# EAGLE library part TLC5941_RHB_32 (library Components)
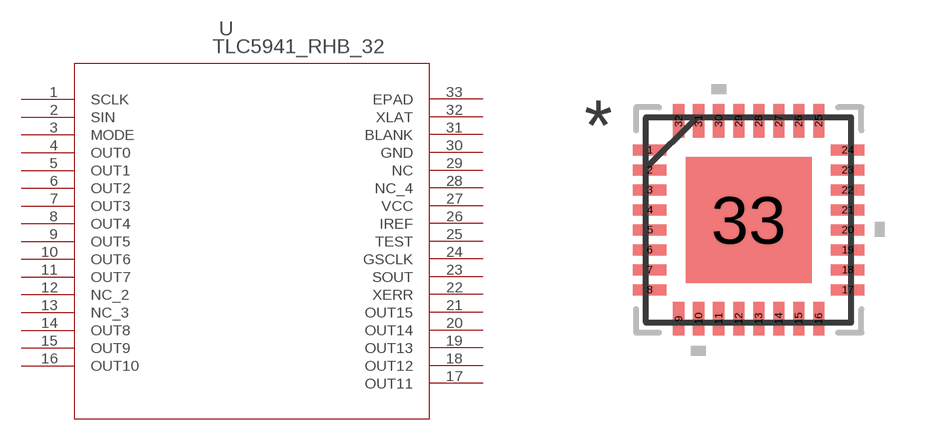
[diagram p6: symbol with the pads of RHB32_3P15X3P15; footprint RHB32_3P15X3P15]

Designator prefix U

## TLC5941_RHB_32 (DATASHEETURL: http://www.ti.com/lit/gpn/TLC5941; DESCRIPTION: 16 Channel LED Driver with Dot Correction and Grayscale PWM Control; FAMILY_NAME: LED DRIVER; GENERIC_PART_NUMBER: TLC5941; INDUSTRY_STD_PKG_TYPE: QFN; MANUFACTURER: Texas Instruments; MANUFACTURER_PART_NUMBER: tlc5941_rhb_32; PACKAGE_DESIGNATOR: RHB; PIN_COUNT: 32; VENDOR: Texas Instruments)  [RHB32_3P15X3P15]
1  SCLK  in
2  SIN  in
3  MODE  in
4  OUT0  out
5  OUT1  out
6  OUT2  out
7  OUT3  out
8  OUT4  out
9  OUT5  out
10  OUT6  out
11  OUT7  out
12  NC_2  pas
13  NC_3  pas
14  OUT8  out
15  OUT9  out
16  OUT10  out
17  OUT11  out
18  OUT12  out
19  OUT13  out
20  OUT14  out
21  OUT15  out
22  XERR  out
23  SOUT  out
24  GSCLK  in
25  TEST  in
26  IREF
27  VCC  pwr
28  NC_4  pas
29  NC  pas
30  GND  pwr
31  BLANK  in
32  XLAT  in
33  EPAD  pas

## Footprint RHB32_3P15X3P15 (pad centres in mm)
smd 0.838 x 0.279: 1 -2.475,1.75; 2 -2.475,1.25; 3 -2.475,0.75; 4 -2.475,0.25; 5 -2.475,-0.25; 6 -2.475,-0.75; 7 -2.475,-1.25; 8 -2.475,-1.75; 17 2.475,-1.75; 18 2.475,-1.25; 19 2.475,-0.75; 20 2.475,-0.25; 21 2.475,0.25; 22 2.475,0.75; 23 2.475,1.25; 24 2.475,1.75
smd 0.279 x 0.838: 9 -1.75,-2.475; 10 -1.25,-2.475; 11 -0.75,-2.475; 12 -0.25,-2.475; 13 0.25,-2.475; 14 0.75,-2.475; 15 1.25,-2.475; 16 1.75,-2.475; 25 1.75,2.475; 26 1.25,2.475; 27 0.75,2.475; 28 0.25,2.475; 29 -0.25,2.475; 30 -0.75,2.475; 31 -1.25,2.475; 32 -1.75,2.475
smd 3.15 x 3.15: 33 0,0